# EAGLE library part IV-6_T (library vfd)
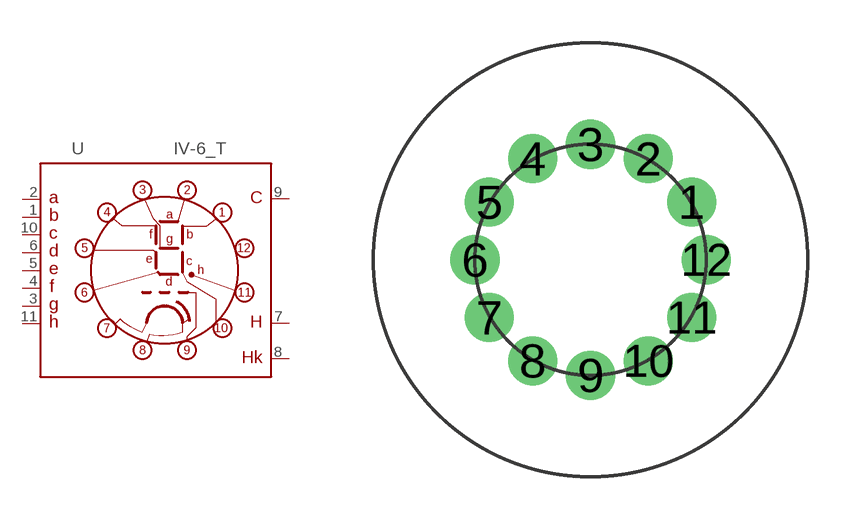
[diagram p1: symbol with the pads of IV-6; footprint IV-6]

Designator prefix -

## IV-6_T  [IV-6]
1  B
2  A
3  G
4  F
5  E
6  D
7  H1
8  H2K
9  S
10  C
11  H

## Footprint IV-6 (pad centres in mm)
drill 0.5 pad 1.7: 1 0.5,-3; 2 -1,-1.5; 3 -3,-1; 4 -5,-1.5; 5 -6.5,-3; 6 -7,-5; 7 -6.5,-7; 8 -5,-8.5; 9 -3,-9; 10 -1,-8.5; 11 0.5,-7; 12 1,-5